# Altium footprint library PCAD_LAB01_02.PcbLib: 6 footprints
Each footprint in its own frame and in the unit in brackets; x right, y up, seen from the top. Pads: shape width x height; smd on the part's side, far side on the other; paste and mask are expansions set on the pad; w line width, h text height; cw(c..) or ccw(c..) is an arc to the next point about the centre after c.
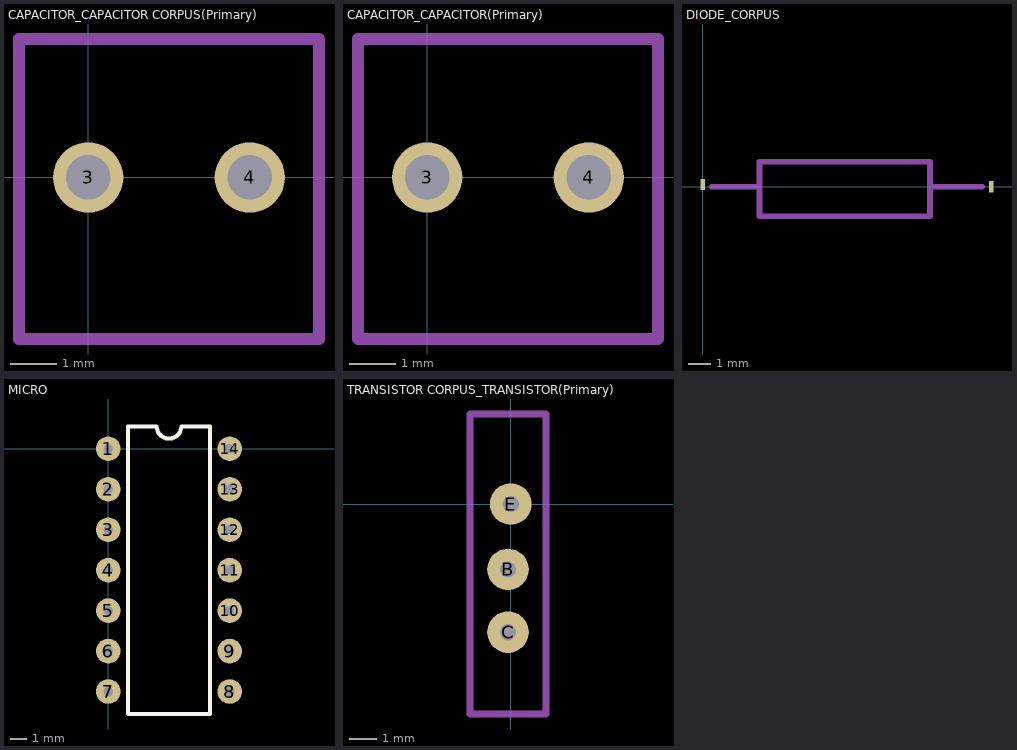
[diagram p0: the footprints below, top view; thin cyan lines are the x and y axes]

## CAPACITOR_CAPACITOR CORPUS(Primary) [mil]
pads (2):
  round 60 hole 38: 3(0,0) 4(137.8,0)
Mechanical 1:
  lines w10: -59.06,-137.8 196.85,-137.8 196.85,118.11 -59.06,118.11 -59.06,-137.8

## CAPACITOR_CAPACITOR(Primary) [mil]
pads (2):
  round 60 hole 38: 3(0,0) 4(137.8,0)
Mechanical 1:
  lines w10: -59.06,-137.8 196.85,-137.8 196.85,118.11 -59.06,118.11 -59.06,-137.8

## DIODE_CORPUS [mm]
pads (2):
  rect 0.2x0.5 smd: 1(0,0.1) 2(12.7,0)
Mechanical 1:
  lines w0.254: 0.4,0 2.4,0 ; 10.1,0 12.3,0 ; 2.5,-1.3 10,-1.3 10,1.1 2.5,1.1 2.5,-1.3

## MICRO [mm]
pads (14):
  round 1.524 hole 0.6: 1(0,0) 2(0,-2.5) 3(0,-5) 4(0,-7.5) 5(0,-10) 6(0,-12.5) 7(0,-15) 8(7.5,-15) 9(7.5,-12.5) 10(7.5,-10) 11(7.5,-7.5) 12(7.5,-5) 13(7.5,-2.5) 14(7.5,0)
Top Overlay:
  lines w0.254: 1.21,-16.39 6.29,-16.39 6.29,1.39 4.512,1.39 cw(c3.75,1.39) 2.988,1.39 1.21,1.39 1.21,-16.39

## PCBComponent_1 [mil]

## TRANSISTOR CORPUS_TRANSISTOR(Primary) [mm]
pads (3):
  round 1.524 hole 0.6: B(-0.1,-2.4) C(-0.1,-4.7) E(0,0)
Mechanical 1:
  lines w0.254: -1.5,-7.7 -1.5,3.3 1.3,3.3 1.3,-7.7 -1.5,-7.7